# EAGLE library part TPS22960 (library texas)
DUAL LOAD SWITCH WITH CONTROLLED TURN-ON, LOW INPUT VOLTAGE
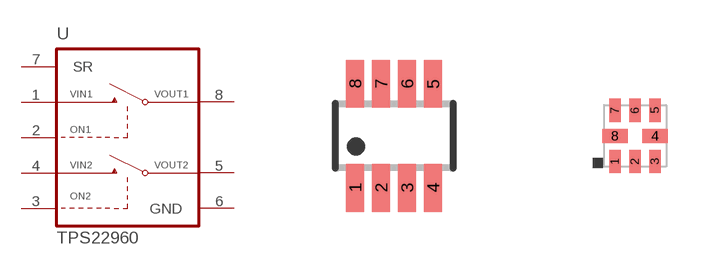
[diagram p90: symbol with the pads of SOT23-8; footprints SOT23-8, UQFN8]

Designator prefix U

## TPS22960DCN  [SOT23-8]
1  VIN1
2  ON1  in
3  ON2  in
4  VIN2
5  VOUT2
6  GND
7  SR  in
8  VOUT1

## TPS22960RSE  [UQFN8]
1  VIN1
2  ON1  in
3  SR  in
4  VOUT1
5  VOUT2
6  GND
7  ON2  in
8  VIN2

## Footprint SOT23-8 (pad centres in mm)
SOT-23 - DCN 0.65 mm pitch
smd 0.45 x 1.2: 1 -0.975,-1.3; 2 -0.325,-1.3; 3 0.325,-1.3; 4 0.975,-1.3; 5 0.975,1.3; 6 0.325,1.3; 7 -0.325,1.3; 8 -0.975,1.3

## Footprint UQFN8 (pad centres in mm)
UQFN-8 (RSE-PUQFN-N8) body 1.55 x 1.55 mm
smd 0.3 x 0.58: 1 -0.5,-0.64; 2 0,-0.64; 3 0.5,-0.64; 5 0.5,0.64; 6 0,0.64; 7 -0.5,0.64
smd 0.63 x 0.35: 4 0.5,0; 8 -0.5,0